# Altium schematic symbol library MCP1804T_3302I_OT.Schlib: 1 symbol
Pins are listed as number, name and electrical type; pins without a type are passive.

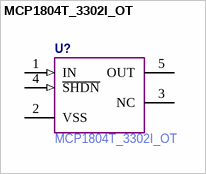
[diagram p0: symbol MCP1804T_3302I_OT]

## MCP1804T_3302I_OT
designator U?, comment Manufacturer Part Number: MCP1804T_3302I_OT  (hidden comment: MCP1804T-3302I-OT)
pins: 1 IN (in), 2 VSS (power), 3 NC, 4 ~{SHDN} (in), 5 OUT (power)